# EAGLE library part TPS65130RGER (library Hexabitz)
Split-Rail Converter with Dual, Positive and Negative Outputs (300mA typ) 24-VQFN -40 to 85
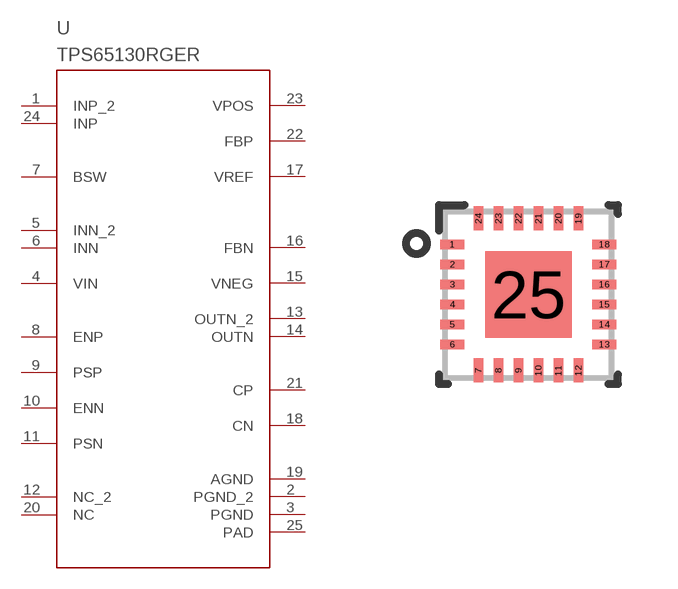
[diagram p22: symbol with the pads of RGE0024B_NV; footprint RGE0024B_NV]

Designator prefix U

## TPS65130RGERT (ALTERNATE_PARTNUMBER: TPS65130RGET; APPLICATION_BUILDNUMBER: *; COMPTYPE: IC; MANUFACTURER: Texas Instruments; MFN: Texas Instruments; MOUNTTYPE: SMT; MPN: TPS65130RGET; OCTOPART_URL: https://octopart.com/tps65130rget-texas+instruments-7102173?r=sp&s=1oanP9AbQhOs522rlI3BXw; PACKAGEREFERENCE: RGE0024B; PARTNUMBER: TPS65130RGER; PIN_COUNT: 25; REFDES: RefDes; ROHS: Y; TYPE: TYPE; VALUE: TPS65130RGERT)  [RGE0024B_NV]
1  INP_2  pwr
2  PGND_2  pwr
3  PGND  pwr
4  VIN  pwr
5  INN_2  pwr
6  INN  pwr
7  BSW  out
8  ENP  in
9  PSP  in
10  ENN  in
11  PSN  in
12  NC_2  pas
13  OUTN_2  pwr
14  OUTN  pwr
15  VNEG  in
16  FBN  in
17  VREF  out
18  CN  pas
19  AGND  pwr
20  NC  pas
21  CP  pas
22  FBP  in
23  VPOS  in
24  INP  pwr
25  PAD  pwr

## Footprint RGE0024B_NV (pad centres in mm)
smd 0.6 x 0.24: 1 -1.9,1.25; 2 -1.9,0.75; 3 -1.9,0.25; 4 -1.9,-0.25; 5 -1.9,-0.75; 6 -1.9,-1.25; 13 1.9,-1.25; 14 1.9,-0.75; 15 1.9,-0.25; 16 1.9,0.25; 17 1.9,0.75; 18 1.9,1.25
smd 0.24 x 0.6: 7 -1.25,-1.9; 8 -0.75,-1.9; 9 -0.25,-1.9; 10 0.25,-1.9; 11 0.75,-1.9; 12 1.25,-1.9; 19 1.25,1.9; 20 0.75,1.9; 21 0.25,1.9; 22 -0.25,1.9; 23 -0.75,1.9; 24 -1.25,1.9
smd 2.159 x 2.159: 25 0,0